# EAGLE library part STEREO_POT (library library)
Stereo Pot Potentiometers 1/40W 100K Ohms 20% 9mm ROTARY POT
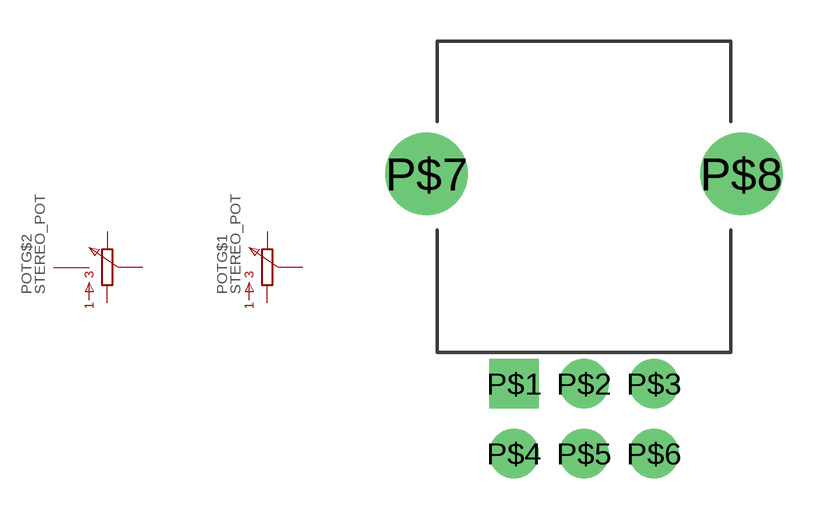
[diagram p1: symbol with the pads of P0925N; footprint P0925N]

Designator prefix POT; gates G$1=POT G$2=POT_GND

## STEREO_POT (LINK: https://www.mouser.se/ProductDetail/BI-Technologies-TT-Electronics/P0925N-FC20AR100K?qs=56eeD6vBg8iu%252BaH%2FeiwqGQ%3D%3D; MOUSERNR: 858-P0925NFC20AR100K; MPN: P0925N-FC20AR100K; SUPPLIER: Mouser)  [P0925N]
P$1  G$1:1  pas
P$2  G$1:2  pas
P$3  G$1:3  pas
P$4  G$2:1  pas
P$5  G$2:2  pas
P$6  G$2:3  pas
P$7  G$2:P$1
P$8  G$2:P$1

## Footprint P0925N (pad centres in mm)
drill 1.2 square: P$1 -2.54,0
drill 1.2: P$2 0,0; P$3 2.54,0; P$4 -2.54,-2.54; P$5 0,-2.54; P$6 2.54,-2.54
drill 2: P$7 -5.715,7.62; P$8 5.715,7.62